# Altium schematic symbol library ECSC2024.SchLib: 14 symbols
Pins are listed as number, name and electrical type; pins without a type are passive.

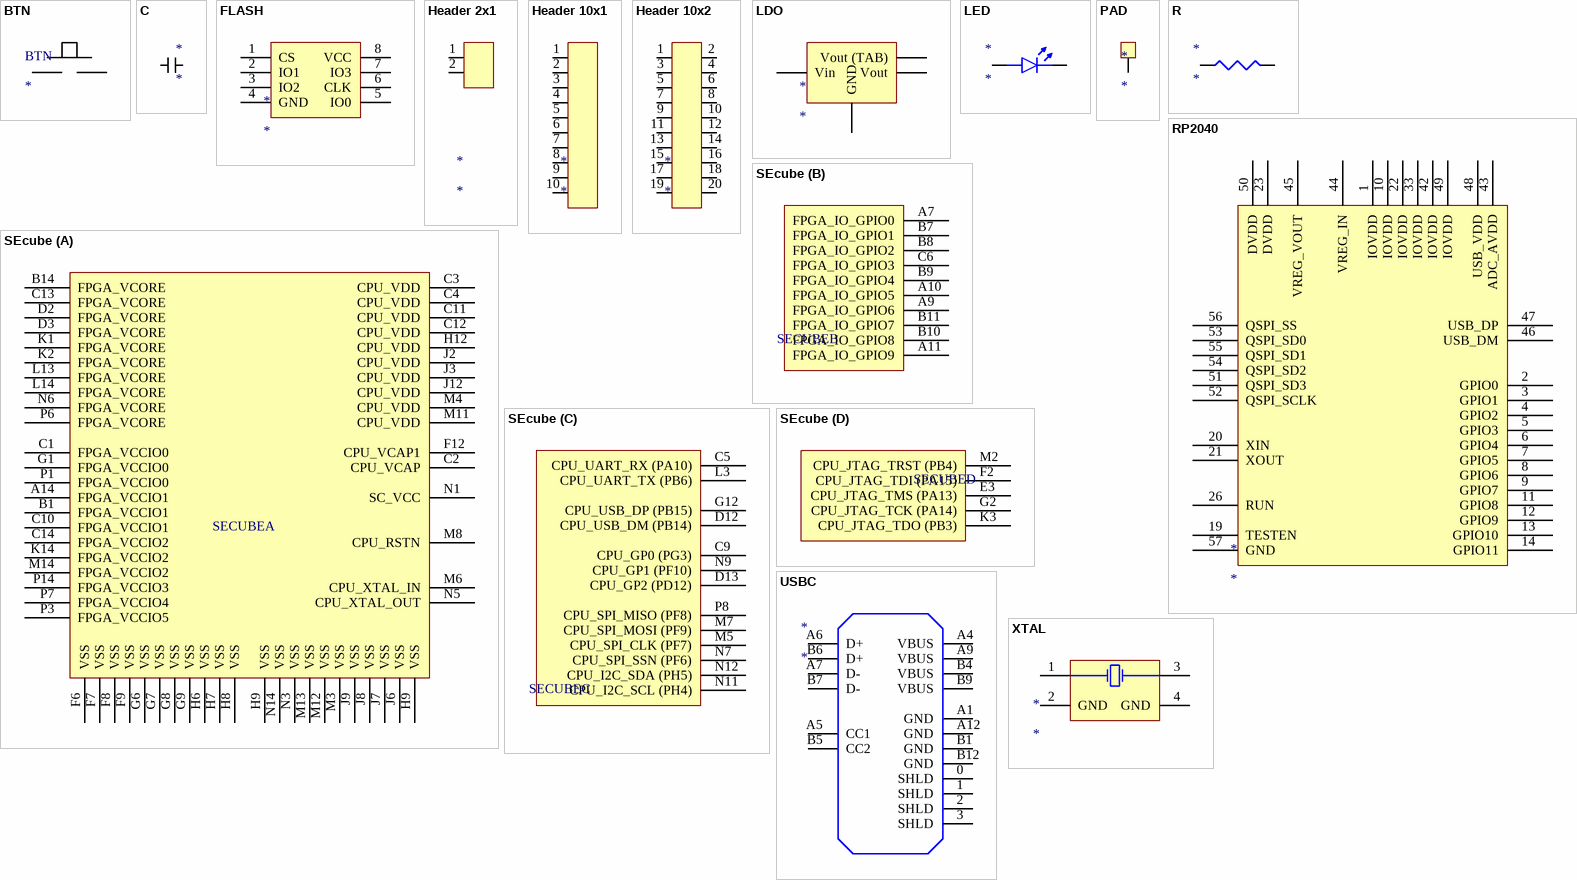
[diagram p0: symbols BTN to XTAL]

## BTN
designator BTN
footprint TS1088AR02016
pins: 1, 2

## C
designator *
footprint C0402 (0402 foorprint SMT)
footprint C0603
footprint C0201
pins: 1, 2

## FLASH
designator *
footprint SOIC8N (Small Outline; 8 Leads; Body Width 3.9 mm; Pitch 1.27 mm)
pins: 1 CS, 2 IO1, 3 IO2, 4 GND, 5 IO0, 6 CLK, 7 IO3, 8 VCC

## Header 2x1
designator *
footprint HEADER2X1
pins: 1, 2

## Header 10x1
designator *
footprint HEADER10x1
pins: 1, 2, 3, 4, 5, 6, 7, 8, 9, 10

## Header 10x2
designator *
footprint HEADER10x2
pins: 1, 2, 3, 4, 5, 6, 7, 8, 9, 10, 11, 12, 13, 14, 15, 16, 17, 18, 19, 20

## LDO
designator *
footprint SOT-223 (SOT-223/SC-73; 4 Leads; Body 6.7 x 7.3 mm, inc. leads (LxW max))
pins: 1 GND, 2 Vin, 3 Vout, 4 Vout (TAB)

## LED
designator *
footprint LED0603P
pins: 1 A, 2 K

## PAD
designator *
footprint PAD
pins: 1

## R
designator *
footprint R0402 (0402 foorprint SMT)
pins: 1, 2

## RP2040
designator *
footprint RP2040
pins: 1 IOVDD, 2 GPIO0, 3 GPIO1, 4 GPIO2, 5 GPIO3, 6 GPIO4, 7 GPIO5, 8 GPIO6, 9 GPIO7, 10 IOVDD, 11 GPIO8, 12 GPIO9, 13 GPIO10, 14 GPIO11, 19 TESTEN, 20 XIN, 21 XOUT, 22 IOVDD, 23 DVDD, 26 RUN, 33 IOVDD, 42 IOVDD, 43 ADC_AVDD, 44 VREG_IN, 45 VREG_VOUT, 46 USB_DM, 47 USB_DP, 48 USB_VDD, 49 IOVDD, 50 DVDD, 51 QSPI_SD3, 52 QSPI_SCLK, 53 QSPI_SD0, 54 QSPI_SD2, 55 QSPI_SD1, 56 QSPI_SS, 57 GND

## SEcube
designator SECUBE
footprint SEcube
part A pins: A14 FPGA_VCCIO1, B1 FPGA_VCCIO1, B14 FPGA_VCORE, C1 FPGA_VCCIO0, C2 CPU_VCAP, C3 CPU_VDD, C4 CPU_VDD, C10 FPGA_VCCIO1, C11 CPU_VDD, C12 CPU_VDD, C13 FPGA_VCORE, C14 FPGA_VCCIO2, D2 FPGA_VCORE, D3 FPGA_VCORE, F6 VSS, F7 VSS, F8 VSS, F9 VSS, F12 CPU_VCAP1, G1 FPGA_VCCIO0, G6 VSS, G7 VSS, G8 VSS, G9 VSS, H6 VSS, H7 VSS, H8 VSS, H9 VSS, H9 VSS, H12 CPU_VDD, J2 CPU_VDD, J3 CPU_VDD, J6 VSS, J7 VSS, J8 VSS, J9 VSS, J12 CPU_VDD, K1 FPGA_VCORE, K2 FPGA_VCORE, K14 FPGA_VCCIO2, L13 FPGA_VCORE, L14 FPGA_VCORE, M3 VSS, M4 CPU_VDD, M6 CPU_XTAL_IN, M8 CPU_RSTN, M11 CPU_VDD, M12 VSS, M13 VSS, M14 FPGA_VCCIO2, N1 SC_VCC, N3 VSS, N5 CPU_XTAL_OUT, N6 FPGA_VCORE, N14 VSS, P1 FPGA_VCCIO0, P3 FPGA_VCCIO5, P6 FPGA_VCORE, P7 FPGA_VCCIO4, P14 FPGA_VCCIO3
part B pins: A7 FPGA_IO_GPIO0, A9 FPGA_IO_GPIO6, A10 FPGA_IO_GPIO5, A11 FPGA_IO_GPIO9, B7 FPGA_IO_GPIO1, B8 FPGA_IO_GPIO2, B9 FPGA_IO_GPIO4, B10 FPGA_IO_GPIO8, B11 FPGA_IO_GPIO7, C6 FPGA_IO_GPIO3
part C pins: C5 CPU_UART_RX (PA10), C9 CPU_GP0 (PG3), D12 CPU_USB_DM (PB14), D13 CPU_GP2 (PD12), G12 CPU_USB_DP (PB15), L3 CPU_UART_TX (PB6), M5 CPU_SPI_CLK (PF7), M7 CPU_SPI_MOSI (PF9), N7 CPU_SPI_SSN (PF6), N9 CPU_GP1 (PF10), N11 CPU_I2C_SCL (PH4), N12 CPU_I2C_SDA (PH5), P8 CPU_SPI_MISO (PF8)
part D pins: E3 CPU_JTAG_TMS (PA13), F2 CPU_JTAG_TDI (PA15), G2 CPU_JTAG_TCK (PA14), K3 CPU_JTAG_TDO (PB3), M2 CPU_JTAG_TRST (PB4)

## USBC
designator *
footprint USB-TYPE-C-018
pins: 0 SHLD, 1 SHLD, 2 SHLD, 3 SHLD, A1 GND, A4 VBUS, A5 CC1, A6 D+, A7 D-, A9 VBUS, A12 GND, B1 GND, B4 VBUS, B5 CC2, B6 D+, B7 D-, B9 VBUS, B12 GND

## XTAL
designator *
footprint TSX-3225 (SMT Shielded Crystal)
pins: 1 X1, 2 GND (power), 3 X2, 4 GND (power)